# Altium footprint library DQA_R-PUSON-N10_.PcbLib: 1 footprints
Each footprint in its own frame and in the unit in brackets; x right, y up, seen from the top. Pads: shape width x height; smd on the part's side, far side on the other; paste and mask are expansions set on the pad; w line width, h text height; cw(c..) or ccw(c..) is an arc to the next point about the centre after c.
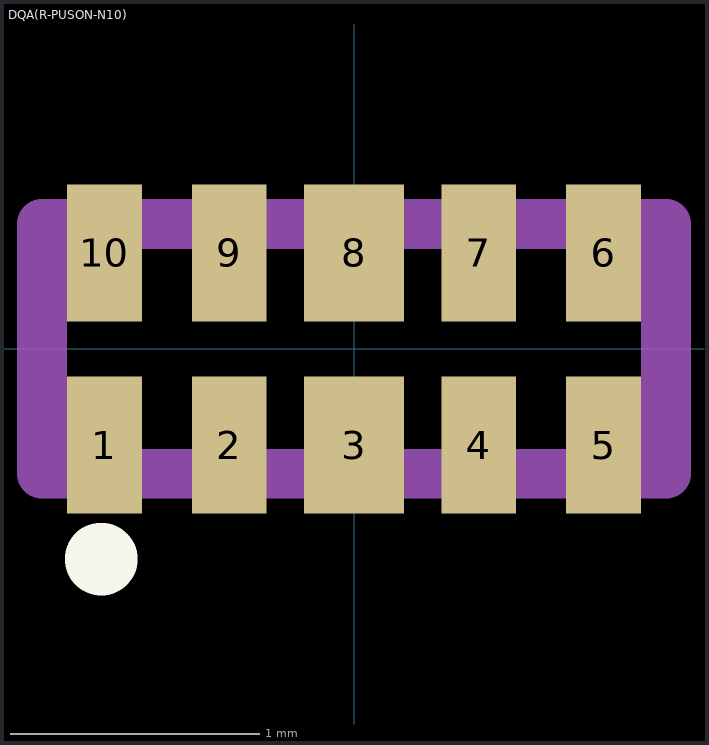
[diagram p0: the footprint, top view; thin cyan lines are the x and y axes]

## DQA(R-PUSON-N10) [mm]
pads (10):
  rect 0.3x0.55 smd: 1(-1,-0.385) 2(-0.5,-0.385) 4(0.5,-0.385) 5(1,-0.385) 6(1,0.385) 7(0.5,0.385) 9(-0.5,0.385) 10(-1,0.385)
  rect 0.4x0.55 smd: 3(0,-0.385) 8(0,0.385)
Top Overlay:
  circle w0.254: c-1.013,-0.842 r0.019
Mechanical 15:
  lines w0.2: -1.25,-0.5 -1.25,0.5 1.25,0.5 1.25,-0.5 -1.25,-0.5
3D body "TPD4EUSB30DQAR.stp": height 0.55, standoff 0, extent -1.25,-0.5 1.25,0.5